# Altium footprint library PCB1.PcbLib: 103 footprints (part 6 of 7)
Each footprint in its own frame and in the unit in brackets; x right, y up, seen from the top. Pads: shape width x height; smd on the part's side, far side on the other; paste and mask are expansions set on the pad; w line width, h text height; cw(c..) or ccw(c..) is an arc to the next point about the centre after c.
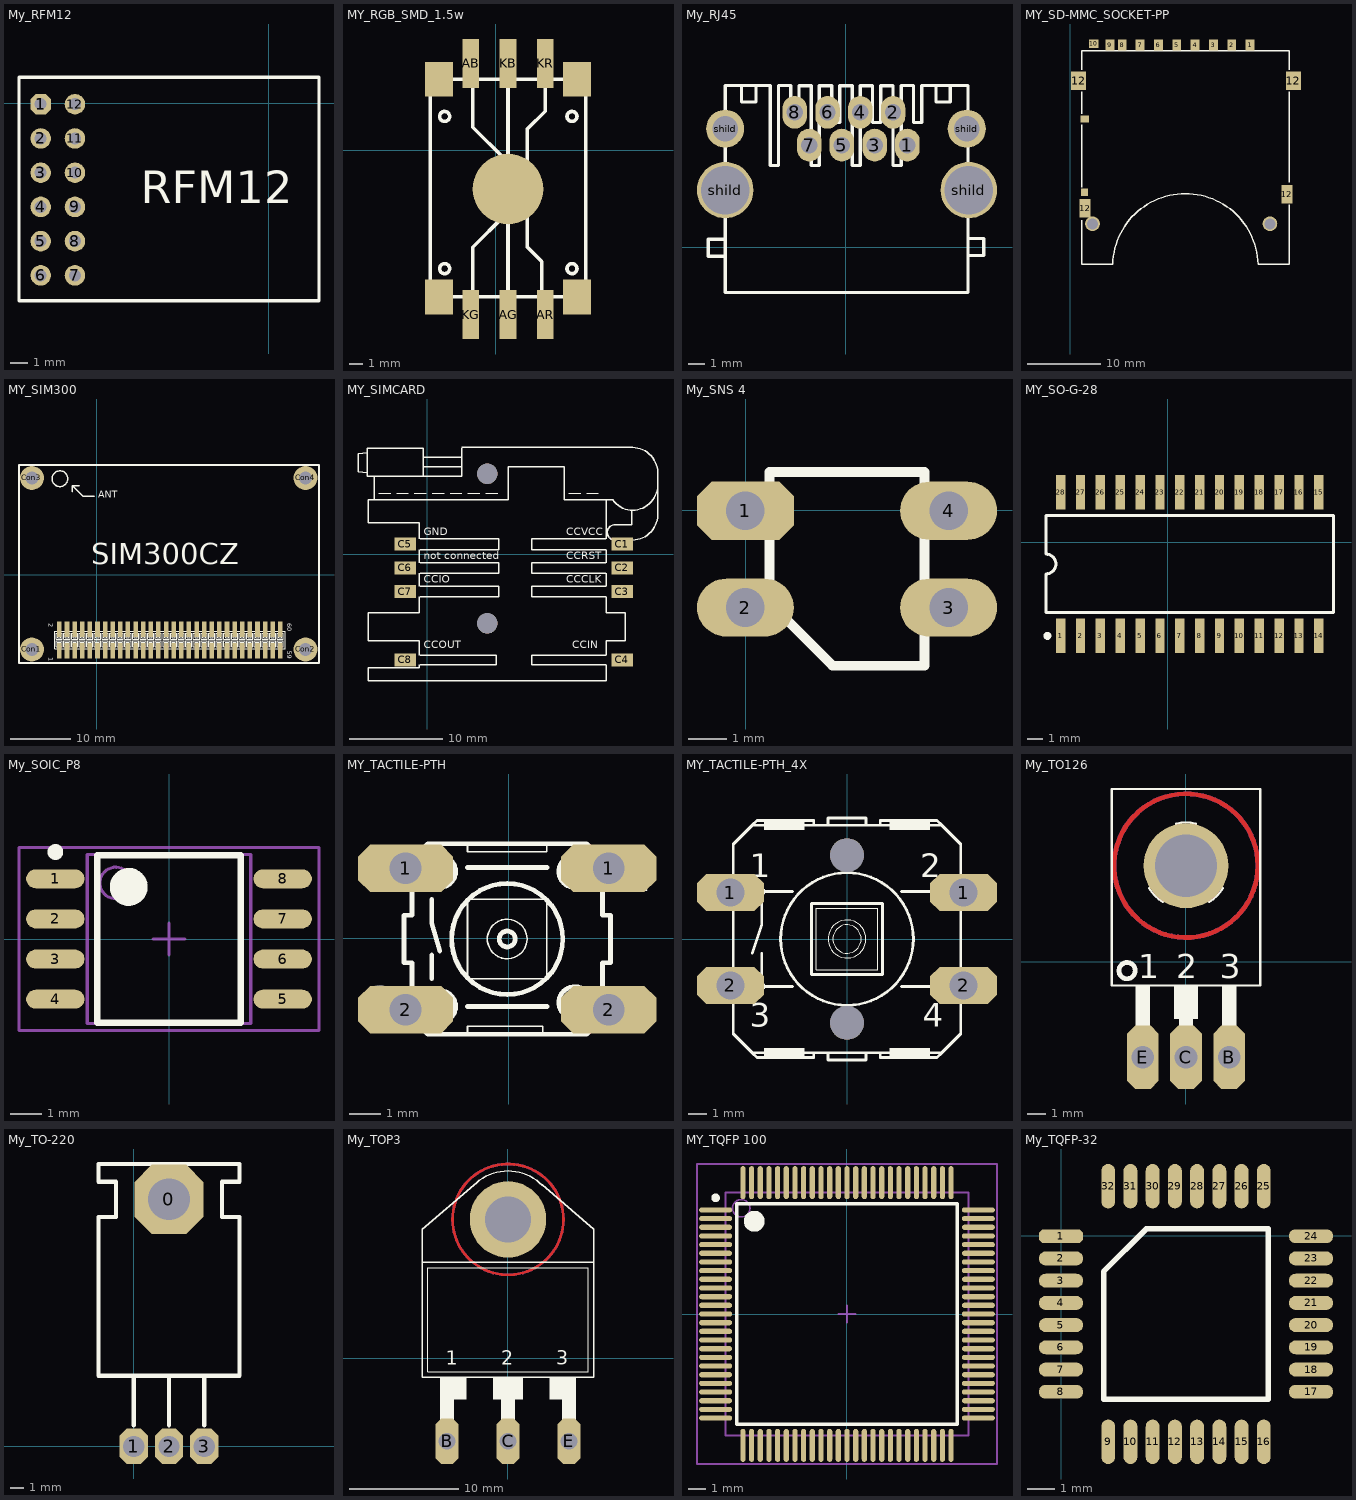
[diagram p5: the footprints below, top view; thin cyan lines are the x and y axes]

## My_RFM12 [mm]
pads (12):
  oct 1.2x1.2 hole 0.7: 1(-13.335,-0.064)
  round 1.2 hole 0.7: 2(-13.335,-2.064) 3(-13.335,-4.064) 4(-13.335,-6.064) 5(-13.335,-8.064) 6(-13.335,-10.064) 7(-11.335,-10.064) 8(-11.335,-8.064) 9(-11.335,-6.064) 10(-11.335,-4.064) 11(-11.335,-2.064) 12(-11.335,-0.064)
Top Overlay:
  lines w0.2: -14.605,1.524 -14.605,-11.557 2.921,-11.557 2.921,1.443 ; -14.579,1.524 2.921,1.524
  text "RFM12" at -7.493,-5.842 h1.91

## MY_RGB_SMD_1.5w [mil]
height 78.74
pads (11):
  rect 47.24x137.8 smd: AB(-70,245) AG(35,-465) AR(140,-465) KB(35,245) KG(-70,-465) KR(140,245)
  rect 78.74x98.43 smd: ""(-160,-415) ""(-160,200) ""(230,-415) ""(230,200)
  round 200 smd: ""(35,-110)
Top Overlay:
  circle w10: c-144.14,-335 r14.14
  circle w10: c-144.14,95 r14.14
  circle w10: c215.86,95 r14.14
  circle w10: c215.86,-335 r14.14
  region: 110,-95 70,-95 70,-125 110,-125
  region: 50,-130 10,-130 10,-160 50,-160
  region: 50,-55 10,-55 10,-85 50,-85
  lines w10: -65,-415 -65,-275 25,-185 25,-140 35,-140 35,-415 ; -65,200 -65,65 25,-25 25,-60 35,-70 35,200 ; 130,-405 130,-315 90,-275 90,60 140,110 140,200 ; -185,-415 255,-415 255,200 -185,200 -185,-415

## My_RJ45 [mil]
pads (12):
  oval 60x80 hole 40: 1(150,250) 2(115,330) 3(70,250) 4(35,330) 5(-10,250) 6(-45,330) 7(-90,250) 8(-125,330)
  round 137.8 hole 118.11 unplated: shild(-295,140) shild(300,140)
  round 92.99 hole 62.01: shild(-295,290) shild(295,290)
Top Overlay:
  lines w8: -299.84,-21.78 -336.41,-21.78 -336.41,19.88 -299.8,19.88 ; -295,-50 -295,395.4 -185,395.4 ; -295,15 -295,-110 297.91,-110 297.91,15 ; -255,395 -255,355 -220,355 -220,395 ; -185,395 -185,285 -185,210 -185,200 -165,200 -165,210 -165,285 -165,395.4 -135,395.4 -135,305 -115,305 -115,395 -85,395 -85,285 -85,210 -85,200 -65,200 -65,210 -65,285 -65,395.4 ; -65,395 -35,395 -35,305 -15,305 -15,395 15,395 15,285 15,210 15,200 35,200 35,210 35,285 35,395.4 ; 35,395 65,395 65,305 85,305 85,395 115,395 115,285 115,210 115,200 135,200 135,210 135,285 135,395.4 165,395.4 165,305 185,305 185,395 ; 185,395.4 295,395.4 ; 220,395 220,355 255,355 255,395 ; 297.91,-50 297.91,395.4 ; 299.8,-19.88 336.41,-19.88 336.41,21.78 299.84,21.78

## MY_SD-MMC_SOCKET-PP [mm]
height 2
pads (18):
  rect 1.2x1.5 smd: 1(24.493,-6.853) 2(21.993,-6.853) 3(19.493,-6.853) 4(16.993,-6.853) 5(14.493,-6.853) 6(11.993,-6.853) 7(9.493,-6.853) 8(7.073,-6.853) 9(5.385,-6.833)
  rect 1.3x1.1 smd: 10(3.175,-6.655)
  rect 1.15x1 smd: 11(1.933,-16.903)
  rect 2x2.5 smd: 12(1.113,-11.703) 12(30.413,-11.703)
  rect 1x1.05 smd: 12(1.933,-26.903)
  rect 1.5x2.5 smd: 12(2.013,-29.103) 12(29.515,-27.178)
  round 2 hole 1.5 unplated: ""(3.013,-31.203) ""(27.213,-31.203)
Top Overlay:
  lines w0.203: 1.513,-30.703 1.513,-36.703 5.773,-36.703 cw(c15.683,-37) 25.593,-36.703 29.863,-36.703 29.863,-28.575 ; 1.513,-26.203 1.513,-17.703 ; 1.513,-16.203 1.513,-13.203 ; 1.513,-10.203 1.513,-7.603 29.863,-7.603 29.863,-10.203 ; 29.863,-25.527 29.863,-13.203

## MY_SIM300 [mm]
height 1.092
pads (64):
  rect 0.76x2.54 smd: 1(-6.223,-12.66) 2(-6.223,-9.1) 3(-4.953,-12.66) 4(-4.953,-9.1) 5(-3.683,-12.66) 6(-3.683,-9.1) 7(-2.413,-12.66) 8(-2.413,-9.1) 9(-1.143,-12.66) 10(-1.143,-9.1) 11(0.127,-12.66) 12(0.127,-9.1) 13(1.397,-12.66) 14(1.397,-9.1) 15(2.667,-12.66) 16(2.667,-9.1) 17(3.937,-12.66) 18(3.937,-9.1) 19(5.207,-12.66) 20(5.207,-9.1) 21(6.477,-12.66) 22(6.477,-9.1) 23(7.747,-12.66) 24(7.747,-9.1) 25(9.017,-12.66) 26(9.017,-9.1) 27(10.287,-12.66) 28(10.287,-9.1) 29(11.557,-12.66) 30(11.557,-9.1) 31(12.827,-12.66) 32(12.827,-9.1) 33(14.097,-12.66) 34(14.097,-9.1) 35(15.367,-12.66) 36(15.367,-9.1) 37(16.637,-12.66) 38(16.637,-9.1) 39(17.907,-12.66) 40(17.907,-9.1) 41(19.177,-12.66) 42(19.177,-9.1) 43(20.447,-12.66) 44(20.447,-9.1) 45(21.717,-12.66) 46(21.717,-9.1) 47(22.987,-12.66) 48(22.987,-9.1) 49(24.257,-12.66) 50(24.257,-9.1) 51(25.527,-12.66) 52(25.527,-9.1) 53(26.797,-12.66) 54(26.797,-9.1) 55(28.067,-12.66) 56(28.067,-9.1) 57(29.337,-12.66) 58(29.337,-9.1) 59(30.607,-12.66) 60(30.607,-9.1)
  round 4 hole 2.2: Con1(-10.795,-12.446) Con2(34.798,-12.446) Con3(-10.795,16.129) Con4(34.798,16.129)
Top Overlay:
  drawing of 493 lines, arcs and shapes, not listed
  text "60" at 31.75,-8.128 h0.76
  text "59" at 31.75,-12.7 h0.76
  text "1" at -8.001,-13.716 h0.76
  text "2" at -8.001,-8.128 h0.76
  text "SIM300CZ" at -0.889,1.778 h3.56
  text "ANT" at 0.254,12.827 h1.14

## MY_SIMCARD [mil]
height 40
pads (10):
  rect 90x55 smd: C1(820,43) C2(820,-57) C3(820,-157) C4(820,-445) C5(-94,43) C6(-94,-57) C7(-94,-157) C8(-94,-445)
  round 86 hole 86 unplated: ""(251.73,-291.06) ""(251.73,338.86)
Top Overlay:
  lines w2: -205,257.76 -155,257.76 ; -130,257.76 -80,257.76 ; -55,257.76 -5,257.76 ; 20,257.76 70,257.76 ; 95,257.76 145,257.76 ; 170,257.76 220,257.76 ; 245,257.76 295,257.76 ; 595,257.76 645,257.76 ; 670,257.76 720,257.76
  lines w6: -33.7,-465 -33.7,-478.07 -250.24,-478.07 -250.24,-532.13 753.7,-532.13 753.7,-465 ; -33.7,-425 -33.7,-365.28 -250.24,-365.28 -250.24,-247.17 -33.7,-247.17 -33.7,-180 ; -33.7,-135 -33.7,-80 ; -33.7,-35 -33.7,20 ; -33.7,65 -33.7,132.17 -250.24,132.17 -250.24,230.59 -224.24,230.59 ; -30,-465 290,-465 290,-425 -30,-425 ; -30,-180 300,-180 300,-135 -30,-135 ; -30,-80 300,-80 300,-35 -30,-35 ; -30,20 300,20 300,65 -30,65 ; 143.46,447.13 143.46,407.76 ; 145,450 865,450 cw(c862.5,342.5) 970,345 970,165 cw(c862.5,167.5) 865,60 790,60 cw(c790,92.5) 790,125 859.76,125 ; 750,-465 440,-465 440,-425 750,-425 ; 750,-180 440,-180 440,-135 750,-135 ; 750,-80 440,-80 440,-35 750,-35 ; 750,20 440,20 440,65 750,65 ; 753.7,-425 753.7,-365.28 832.44,-365.28 832.44,-247.17 753.7,-247.17 753.7,-180 ; 753.7,-135 753.7,-80 ; 753.7,-35 753.7,20 ; 753.7,65 753.7,230.59 ; 780,230 ccw(c866.17,290) 865,185 ccw(c862.5,292.5) 970,290 ; 780,230.59 753.7,230.59 ; 859.76,185 859.76,125 ; 860,125 859.76,125 ; -253.35,343.39 -253.35,427.76 ; -253.35,343.39 -253.35,329.02 -224.24,329.02 ; -253.35,343.39 -292.72,348.39 -292.72,422.76 -253.35,427.76 ; -253.35,427.76 -253.35,447.13 -17.13,447.13 -17.13,407.76 ; -224.24,230.59 -224.24,329.02 ; -224.24,230.59 340.31,230.59 340.31,368.39 576.54,368.39 576.54,230.59 753.7,230.59 ; -224.24,329.02 -17.13,329.02 ; -17.13,329.02 -17.13,368.39 ; -17.13,329.02 143.46,329.02 143.46,368.39 ; -17.13,368.39 -17.13,407.76 ; -17.13,368.39 143.46,368.39 ; -17.13,407.76 143.46,407.76 ; 143.46,368.39 143.46,407.76
  text "CCVCC" at 585,80 h32
  text "CCRST" at 585,-20 h32
  text "CCCLK" at 585,-120 h32
  text "CCIN" at 610,-395 h32
  text "CCOUT" at -15,-395 h32
  text "CCIO" at -15,-120 h32
  text "not connected" at -15,-20 h32
  text "GND" at -15,80 h32

## My_SNS 4 [mil]
pads (4):
  oct 100x60 hole 40: 1(-0.5,-0.5)
  oval 100x60 hole 40: 2(-0.5,-100.5) 3(209.5,-100.5) 4(209.5,-0.5)
Top Overlay:
  lines w10: 24.5,-95.5 24.5,-70.5 24.5,39.5 84.5,39.5 134.5,39.5 184.5,39.5 184.5,-160.5 99.5,-160.5 89.5,-160.5 24.5,-95.5

## MY_SO-G-28 [mm]
height 0.254
pads (28):
  rect 0.6x2.2 smd: 1(-6.858,-5.997) 2(-5.588,-5.997) 3(-4.318,-5.997) 4(-3.048,-5.997) 5(-1.778,-5.997) 6(-0.508,-5.997) 7(0.762,-5.997) 8(2.032,-5.997) 9(3.302,-5.997) 10(4.572,-5.997) 11(5.842,-5.997) 12(7.112,-5.997) 13(8.382,-5.997) 14(9.652,-5.997) 15(9.652,3.203) 16(8.382,3.203) 17(7.112,3.203) 18(5.842,3.203) 19(4.572,3.203) 20(3.302,3.203) 21(2.032,3.203) 22(0.762,3.203) 23(-0.508,3.203) 24(-1.778,3.203) 25(-3.048,3.203) 26(-4.318,3.203) 27(-5.588,3.203) 28(-6.858,3.203)
Top Overlay:
  circle w0.25: c-7.708,-5.997 r0.125
  lines w0.2: -7.803,-4.497 -7.803,-2.032 ccw(c-7.803,-1.397) -7.803,-0.762 -7.803,1.703 10.597,1.703 10.597,-4.497 -7.803,-4.497

## My_SOIC_P8 [mm]
pads (8):
  oval 1.85x0.6 smd: 1(-3.6,1.905) 2(-3.6,0.635) 3(-3.6,-0.635) 4(-3.6,-1.905) 5(3.6,-1.905) 6(3.6,-0.635) 7(3.6,0.635) 8(3.6,1.905)
Top Overlay:
  circle w0.25: c-3.6,2.755 r0.125
  circle w0.6: c-1.275,1.65 r0.3
  lines w0.2: -2.275,-2.65 -2.275,2.65 2.275,2.65 2.275,-2.65 -2.275,-2.65
Mechanical 13:
  circle w0.1: c-1.69,1.775 r0.5
  lines w0.1: -2.59,-2.675 -2.59,2.675 2.59,2.675 2.59,-2.675 -2.59,-2.675
Mechanical 15:
  lines w0.1: -0.5,0 0.5,0 ; 0,-0.5 0,0.5 ; -4.75,-2.9 -4.75,2.9 4.75,2.9 4.75,-2.9 -4.75,-2.9
3D body: height 2.16, standoff 0.05, extent -2.59,-2.675 2.59,2.675

## MY_TACTILE-PTH [mil]
height 196.85
pads (4):
  oct 120x60 hole 40: 1(-130,88) 1(126,88) 2(-130,-90) 2(126,-90)
Top Overlay:
  circle w6: c-2,-1 r70
  circle w6: c-87,-86 r20
  circle w6: c83,-81 r20
  circle w6: c83,84 r20
  circle w6: c-87,84 r20
  circle w2: c-2,-1 r25
  circle w6: c-2,-1 r10
  lines w2: -52,-121 -52,-111 43,-111 43,-121 ; -52,119 -52,109 48,109 48,119 ; -52,-51 -52,49 48,49 48,-51 -52,-51
  lines w6: -97,-51 -97,-21 ; -97,49 -97,19 -87,-16 ; -52,-86 48,-86 ; -52,89 48,89 ; -132,-31 -132,29 -122,29 -122,39 -122,99 -102,119 -87,119 -52,119 48,119 83,119 98,119 118,99 118,39 118,29 128,29 128,-31 118,-31 118,-41 118,-101 98,-121 83,-121 43,-121 -52,-121 -87,-121 -102,-121 -122,-101 -122,-41 -122,-31 -132,-31
  text "1" at -172,64 h50
  text "2" at 138,59 h50
  text "3" at -182,-111 h50
  text "4" at 138,-111 h50

## MY_TACTILE-PTH_4X [mil]
pads (6):
  oct 141.01x78.74 hole 59.06: 1(-246,98) 1(246,98) 2(-246,-98) 2(246,-98)
  round 71 on Top hole 71 unplated: ""(0,-177) ""(0,177)
Top Overlay:
  circle w6: c-180,-100 r5
  circle w6: c-180,100 r5
  circle w2: c0,0 r30
  circle w2: c0,0 r40
  circle w6: c0,0 r140
  rectangle: -175,-250 -90,-230
  rectangle: 90,-250 175,-230
  rectangle: -175,230 -90,250
  rectangle: 90,230 175,250
  rectangle: -260,-115 -240,-80
  rectangle: -260,80 -240,115
  rectangle: 240,80 260,115
  rectangle: 240,-115 260,-80
  lines w2: -65,-65 -65,65 65,65 65,-65 -65,-65
  lines w6: -200,-100 -180,-100 ; -200,-30 -180,30 -180,100 ; -200,100 -180,100 ; -180,-30 -180,-100 ; -115,-100 -180,-100 ; -115,100 -180,100 ; 115,-100 200,-100 ; 115,100 200,100 ; -200,-240 -190,-250 -70,-250 -70,-240 ; -200,-240 -70,-240 ; -200,-240 -240,-200 -240,-150 -240,-45 -240,45 -240,150 -240,200 -200,240 ; -200,240 -190,250 -70,250 -70,240 ; -200,240 -70,240 ; -70,-240 -40,-240 ; -70,240 -40,240 ; -40,-240 40,-240 ; -40,-240 -40,-255 40,-255 40,-240 ; -40,240 40,240 ; -40,240 -40,255 40,255 40,240 ; 40,-240 70,-240 ; 40,240 70,240 ; 70,-240 200,-240 ; 70,-240 70,-250 190,-250 200,-240 ; 70,240 70,250 190,250 200,240 ; 70,240 200,240 ; 200,-240 240,-200 240,-150 240,-45 240,45 240,150 240,200 200,240 ; -75,-75 -75,75 75,75 75,-75 -75,-75
  text "4" at 160,-185 h50
  text "3" at -205,-185 h50
  text "2" at 155,130 h50
  text "1" at -205,130 h50

## My_TO126 [mm]
pads (4):
  oct 1.676x3.353 hole 1.2: B(2.291,-5.076) C(0.005,-5.076) E(-2.281,-5.076)
  round 4.5 hole 3.3 unplated: ""(0.005,5.084)
Top Layer:
  circle w0.254: c0.005,5.084 r3.81
Bottom Layer:
  circle w0.254: c0.005,5.084 r3.81
Top Overlay:
  circle w0.254: c-3.119,-0.479 r0.432
  circle w0.127: c0.005,5.084 r1.651
  rectangle: -0.63,-3.044 0.64,-1.266
  rectangle: -2.662,-3.425 -1.9,-1.266
  rectangle: -2.662,-5.203 -1.9,-3.425
  rectangle: -0.376,-3.425 0.386,-1.266
  rectangle: -0.376,-5.203 0.386,-3.425
  rectangle: 1.91,-3.425 2.672,-1.266
  rectangle: 1.91,-5.203 2.672,-3.425
  lines w0.127: -1.474,4.349 -1.944,3.89 ccw(c0.005,5.084) -1.234,3.163 -0.764,3.623 ; -0.503,6.655 -0.503,7.313 cw(c0.005,5.084) 0.513,7.313 0.513,6.655 ; 0.774,3.623 1.244,3.163 ccw(c0.005,5.084) 1.954,3.889 1.484,4.349 ; -3.932,-1.266 -3.932,9.148 3.942,9.148 3.942,-1.266 -3.932,-1.266
  text "1" at -2.535,-0.885 h1.27
  text "2" at -0.503,-0.885 h1.27
  text "3" at 1.783,-0.885 h1.27

## My_TO-220 [mil]
pads (4):
  oct 196.85x196.85 hole 118.11: 0(99.49,699.49)
  oct 80x100 hole 60: 1(-0.5,-0.5) 2(99.5,-0.5) 3(199.5,-0.5)
Top Overlay:
  lines w12: -0.5,59.5 -0.5,199.5 ; 99.5,59.5 99.5,199.5 ; 199.5,59.5 199.5,199.5 ; -100.5,199.5 299.5,199.5 299.5,649.5 249.5,649.5 249.5,749.5 299.5,749.5 299.5,799.5 -100.5,799.5 -100.5,749.5 -50.5,749.5 -50.5,649.5 -100.5,649.5 -100.5,199.5

## My_TOP3 [mil]
pads (4):
  oct 82.5x165.01 hole 60: B(-219.8,-299.85) C(0.2,-299.85) E(220.2,-299.85)
  round 275.59 hole 165.35 unplated: ""(0.2,500.15)
Top Layer:
  circle w10: c0.2,500.15 r200
Bottom Layer:
  circle w10: c0.2,500.15 r200
Top Overlay:
  rectangle: -244.8,-149.85 -149.8,-69.85
  rectangle: -54.8,-149.85 55.2,-69.85
  rectangle: 150.2,-149.85 245.2,-69.85
  rectangle: -244.8,-224.85 -194.8,-149.85
  rectangle: -244.8,-299.85 -194.8,-224.85
  rectangle: -24.8,-224.85 25.2,-149.85
  rectangle: -24.8,-299.85 25.2,-224.85
  rectangle: 195.2,-224.85 245.2,-149.85
  rectangle: 195.2,-299.85 245.2,-224.85
  lines w2: -289.8,-49.85 290.2,-49.85 290.2,325.15 -289.8,325.15 -289.8,-49.85
  lines w5: -123.54,623.89 cw(c0.2,500.15) 0.2,675.15 cw(c0.2,500.15) 123.94,623.89 ; -122.8,624.15 -309.8,465.15 -309.8,345.15 ; 123.2,625.15 310.2,465.15 310.2,345.15 ; -309.8,345.15 -309.8,-69.85 310.2,-69.85 310.2,345.15 ; -309.8,345.15 310.2,345.15
  text "1" at -224.8,-24.85 h50
  text "2" at -24.8,-24.85 h50
  text "3" at 175.2,-24.85 h50

## MY_TQFP 100 [mm] "TSQFP, 100-Leads, Body 16.0x16.0mm (max), Pitch 0.50mm, IPC Medium Density"
height 1.6
pads (100):
  oval 1.905x0.3 smd: 1(-7.575,6) 2(-7.575,5.5) 3(-7.575,5) 4(-7.575,4.5) 5(-7.575,4) 6(-7.575,3.5) 7(-7.575,3) 8(-7.575,2.5) 9(-7.575,2) 10(-7.575,1.5) 11(-7.575,1) 12(-7.575,0.5) 13(-7.575,0) 14(-7.575,-0.5) 15(-7.575,-1) 16(-7.575,-1.5) 17(-7.575,-2) 18(-7.575,-2.5) 19(-7.575,-3) 20(-7.575,-3.5) 21(-7.575,-4) 22(-7.575,-4.5) 23(-7.575,-5) 24(-7.575,-5.5) 25(-7.575,-6) 51(7.575,-6) 52(7.575,-5.5) 53(7.575,-5) 54(7.575,-4.5) 55(7.575,-4) 56(7.575,-3.5) 57(7.575,-3) 58(7.575,-2.5) 59(7.575,-2) 60(7.575,-1.5) 61(7.575,-1) 62(7.575,-0.5) 63(7.575,0) 64(7.575,0.5) 65(7.575,1) 66(7.575,1.5) 67(7.575,2) 68(7.575,2.5) 69(7.575,3) 70(7.575,3.5) 71(7.575,4) 72(7.575,4.5) 73(7.575,5) 74(7.575,5.5) 75(7.575,6)
  oval 0.3x1.905 smd: 26(-6,-7.575) 27(-5.5,-7.575) 28(-5,-7.575) 29(-4.5,-7.575) 30(-4,-7.575) 31(-3.5,-7.575) 32(-3,-7.575) 33(-2.5,-7.575) 34(-2,-7.575) 35(-1.5,-7.575) 36(-1,-7.575) 37(-0.5,-7.575) 38(0,-7.575) 39(0.5,-7.575) 40(1,-7.575) 41(1.5,-7.575) 42(2,-7.575) 43(2.5,-7.575) 44(3,-7.575) 45(3.5,-7.575) 46(4,-7.575) 47(4.5,-7.575) 48(5,-7.575) 49(5.5,-7.575) 50(6,-7.575) 76(6,7.575) 77(5.5,7.575) 78(5,7.575) 79(4.5,7.575) 80(4,7.575) 81(3.5,7.575) 82(3,7.575) 83(2.5,7.575) 84(2,7.575) 85(1.5,7.575) 86(1,7.575) 87(0.5,7.575) 88(0,7.575) 89(-0.5,7.575) 90(-1,7.575) 91(-1.5,7.575) 92(-2,7.575) 93(-2.5,7.575) 94(-3,7.575) 95(-3.5,7.575) 96(-4,7.575) 97(-4.5,7.575) 98(-5,7.575) 99(-5.5,7.575) 100(-6,7.575)
Top Overlay:
  circle w0.6: c-5.35,5.35 r0.3
  circle w0.25: c-7.575,6.7 r0.125
  lines w0.2: -6.35,-6.35 6.35,-6.35 6.35,6.35 -6.35,6.35 -6.35,-6.35
Mechanical 13:
  circle w0.1: c-6.1,6.1 r0.5
  lines w0.1: -7,-7 7,-7 7,7 -7,7 -7,-7
Mechanical 15:
  lines w0.1: -0.5,0 0.5,0 ; 0,-0.5 0,0.5 ; -8.65,-8.65 8.65,-8.65 8.65,8.65 -8.65,8.65 -8.65,-8.65
3D body: height 1.6, standoff 0.05, extent -7,-7 7,7

## My_TQFP-32 [mm]
pads (32):
  oct 1.6x0.5 smd: 1(-0.013,-0.019)
  oval 1.6x0.5 smd: 2(-0.013,-0.819) 3(-0.013,-1.619) 4(-0.013,-2.419) 5(-0.013,-3.219) 6(-0.013,-4.019) 7(-0.013,-4.819) 8(-0.013,-5.619) 17(8.987,-5.619) 18(8.987,-4.819) 19(8.987,-4.019) 20(8.987,-3.219) 21(8.987,-2.419) 22(8.987,-1.619) 23(8.987,-0.819) 24(8.987,-0.019)
  oval 0.5x1.6 smd: 9(1.687,-7.419) 10(2.487,-7.419) 11(3.287,-7.419) 12(4.087,-7.419) 13(4.887,-7.419) 14(5.687,-7.419) 15(6.487,-7.419) 16(7.287,-7.419) 25(7.287,1.781) 26(6.487,1.781) 27(5.687,1.781) 28(4.887,1.781) 29(4.087,1.781) 30(3.287,1.781) 31(2.487,1.781) 32(1.687,1.781)
Top Overlay:
  lines w0.2: 1.522,-5.884 7.452,-5.884 7.452,0.246 3.057,0.246 1.522,-1.289 1.522,-5.884